# EAGLE library part MS103H5208 (library 0MatranLED)
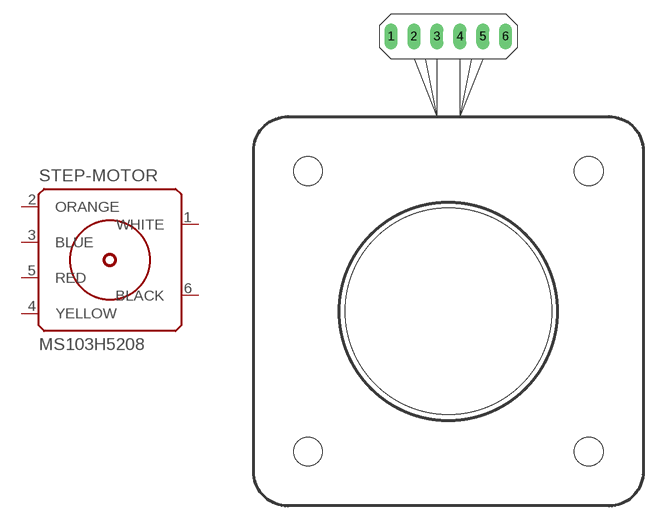
[diagram p4: symbol with the pads of SM; footprint SM]

Designator prefix STEP-MOTOR

## MS103H5208N  [SM]
1  WHITE
2  ORANGE
3  BLUE
4  YELLOW
5  RED
6  BLACK

## Footprint SM (pad centres in mm)
drill 0.8 pad 1.422 long: 1 -6.35,30.48; 2 -3.81,30.48; 3 -1.27,30.48; 4 1.27,30.48; 5 3.81,30.48; 6 6.35,30.48
hole 3.2 at -15.557,-15.557
hole 3.2 at -15.557,15.557
hole 3.2 at 15.557,15.557
hole 3.2 at 15.557,-15.557